# Altium schematic symbol library EEPROM.SchLib: 6 symbols
Pins are listed as number, name and electrical type; pins without a type are passive.

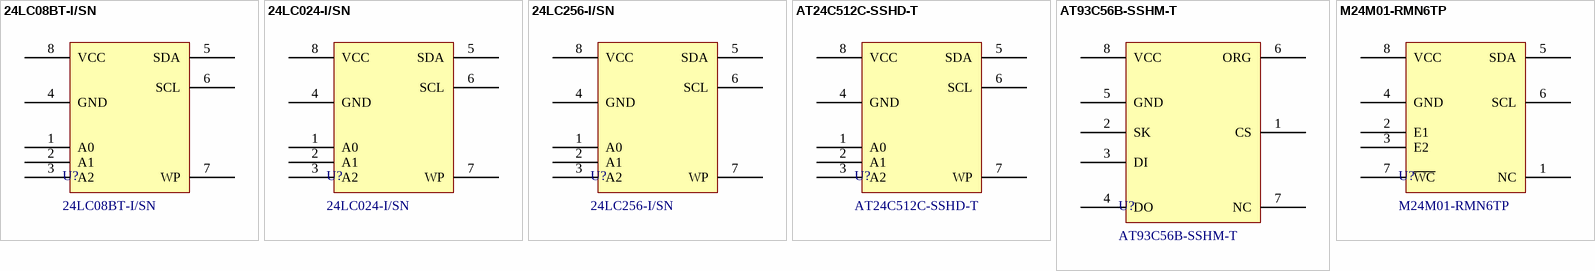
[diagram p0: symbols 24LC08BT-I/SN to M24M01-RMN6TP]

## 24LC08BT-I/SN
designator U?
8 Kbit Electrically Erasable PROM; Manufacturer: Microchip; Interface Type: 2-Wire, I2C; Maximum Clock Frequency: 400 kHz; Memory Size: 8 kbit; Supply Voltage - Max: 5.5 V; Supply Voltage - Min: 2.5 V; Supplier 1 URL: https://www.mouser.vn/ProductDetail/Microchip-Technology/24LC08BT-I-SN?qs=XNV0BZVlaZHdLDEb4lQBIw%3D%3D; Supplier 2 URL: https://www.digikey.com/en/products/detail/microchip-technology/24lc08bt-i-sn/318673; Supplier 3 URL: https://www.thegioiic.com/24lc08b-i-sn-ic-eeprom-8kbit-8-soic; Value: 24LC08BT-I/SN; Manufacturer Part Number: 24LC08BT-I/SN; Supplier 1: Mouser; Supplier 1 Part Number: 579-24LC08BT-I/SN; Supplier 2: Digi-Key; Supplier 2 Part Number: 24LC08BT-I/SNTR-ND; Supplier 3: thegioiic; Supplier 3 Part Number: N/A; Mount: SMD/SMT; Operating Temperature Max: + 85 C; Operating Temperature Min: - 40 C; Package / Case: SOIC-8; Packaging: Tape and Reel; ComponentLink1Description: Datasheet; ComponentLink1URL: https://www.mouser.vn/datasheet/2/268/24AA08_24LC08B_24FC08_8K_I2C_Serial_EEPROM_2000171-2577012.pdf; LCSC Part #: N/A
footprint 24LCxxx-I/SN (SOIC, 8-Leads, Body 4.90x3.90mm, Pitch 1.27mm, IPC Medium Density)
pins: 1 A0, 2 A1, 3 A2, 4 GND, 5 SDA, 6 SCL, 7 WP, 8 VCC

## 24LC024-I/SN
designator U?
2 Kbit Electrically Erasable PROM; Manufacturer: Microchip; Interface Type: 2-Wire, I2C; Maximum Clock Frequency: 400 kHz; Memory Size: 2 kbit; Supply Voltage - Max: 5.5 V; Supply Voltage - Min: 2.5 V; Supplier 1 URL: https://www.mouser.vn/ProductDetail/Microchip-Technology/24LC024-I-SN?qs=qEm8%2FJMJY4oS3QxbKWHseA%3D%3D; Supplier 2 URL: https://www.digikey.com/en/products/detail/microchip-technology/24lc024-i-sn/318656; Supplier 3 URL: https://www.thegioiic.com/24lc024-i-sn-ic-eeprom-2kbit-8-soic; Value: 24LC024-I/SN; Manufacturer Part Number: 24LC024-I/SN; Supplier 1: Mouser; Supplier 1 Part Number: 579-24LC024-I/SN; Supplier 2: Digi-Key; Supplier 2 Part Number: 24LC024-I/SN-ND; Supplier 3: thegioiic; Supplier 3 Part Number: N/A; Mount: SMD/SMT; Operating Temperature Max: + 85 C; Operating Temperature Min: - 40 C; Package / Case: SOIC-8; Packaging: Tape and Reel; ComponentLink1Description: Datasheet; ComponentLink1URL: https://www.mouser.vn/datasheet/2/268/24AA024_24LC024_24AA025_24LC025_2_Kbit_I2C_Serial_-3005761.pdf; LCSC Part #: N/A
footprint 24LCxxx-I/SN (SOIC, 8-Leads, Body 4.90x3.90mm, Pitch 1.27mm, IPC Medium Density)
pins: 1 A0, 2 A1, 3 A2, 4 GND, 5 SDA, 6 SCL, 7 WP, 8 VCC

## 24LC256-I/SN
designator U?
256 Kbit Electrically Erasable PROM; Manufacturer: Microchip; Interface Type: 2-Wire, I2C; Maximum Clock Frequency: 400 kHz; Supply Voltage - Max: 5.5 V; Supply Voltage - Min: 2.5 V; Memory Size: 256 kbit; Supplier 1 URL: https://www.mouser.vn/ProductDetail/Microchip-Technology/24LC256-I-SN?qs=XNV0BZVlaZFRtjzs8l%252BLRw%3D%3D; Supplier 2 URL: https://www.digikey.com/en/products/detail/microchip-technology/24lc256-i-sn/440169; Supplier 3 URL: https://www.thegioiic.com/24lc256-i-sn-ic-eeprom-256kbit-8-soic; Value: 24LC256-I/SN; Manufacturer Part Number: 24LC256-I/SN; Supplier 1: Mouser; Supplier 1 Part Number: 579-24LC256-I/SN; Supplier 2: Digi-Key; Supplier 2 Part Number: 24LC256-I/SN-ND; Supplier 3: thegioiic; Supplier 3 Part Number: N/A; Mount: SMD/SMT; Operating Temperature Max: + 85 C; Operating Temperature Min: - 40 C; Package / Case: SOIC-8; Packaging: Tape and Reel; ComponentLink1Description: Datasheet; ComponentLink1URL: https://www.mouser.vn/datasheet/2/268/24AA256_24LC256_24FC256_256K_I2C_Serial_EEPROM_DS2-3005041.pdf; LCSC Part #: N/A
footprint 24LCxxx-I/SN (SOIC, 8-Leads, Body 4.90x3.90mm, Pitch 1.27mm, IPC Medium Density)
pins: 1 A0, 2 A1, 3 A2, 4 GND, 5 SDA, 6 SCL, 7 WP, 8 VCC

## AT24C512C-SSHD-T
designator U?
EEPROM SERIAL EEPROM 512K (64K X 8) 2WIRE 2.5V; Manufacturer: Microchip; Interface Type: 2-Wire, I2C; Maximum Clock Frequency: 1 MHz; Memory Size: 512 kbit; Supply Voltage - Max: 5.5 V; Supplier 1 URL: https://www.mouser.vn/ProductDetail/Microchip-Technology/AT24C512C-SSHD-T?qs=Oaf4mloV4cM7Q6xetGfOtg%3D%3D; Supplier 2 URL: https://www.digikey.com/en/products/detail/microchip-technology/at24c512c-sshd-t/3046245; Supplier 3 URL: https://www.thegioiic.com/at24c512c-sshd-t-ic-eeprom-512kbit-8-soic; Value: AT24C512C-SSHD-T; Manufacturer Part Number: AT24C512C-SSHD-T; Supplier 1: Mouser; Supplier 1 Part Number: 556-AT24C512C-SSHD-T; Supplier 2: Digi-Key; Supplier 2 Part Number: AT24C512C-SSHD-TTR-ND; Supplier 3: thegioiic; Supplier 3 Part Number: AT24C512C-SSHD-T; Mount: SMD/SMT; Operating Temperature Max: + 85 C; Operating Temperature Min: - 40 C; Package / Case: SOIC-8; Packaging: Tape and Reel; Supply Voltage - Min: 2.5 V; ComponentLink1Description: Datasheet; ComponentLink1URL: https://www.mouser.vn/datasheet/2/268/AT24C512C_I_c2_b2C_Compatible__Two_Wire__Serial_EE-2306430.pdf; LCSC Part #: C12371
footprint M24M01-RMN6TP (SOIC, 8-Leads, Body 4.90x3.90mm, Pitch 1.27mm, IPC Medium Density)
pins: 1 A0, 2 A1, 3 A2, 4 GND, 5 SDA, 6 SCL, 7 WP, 8 VCC

## AT93C56B-SSHM-T
designator U?
EEPROM 2K (256x8/128x16) 3-WIRE, NiPdAu, 1.7V; Manufacturer: Microchip; Interface Type: 3-Wire, Microwire; Maximum Clock Frequency: 2 MHz; Memory Size: 2 kbit; Supply Voltage - Max: 5.5 V; Supplier 1 URL: https://www.mouser.com/ProductDetail/Microchip-Technology/AT93C56B-SSHM-T?qs=SxVMCiT8IVF4cB2r9UHj%252Bg%3D%3D; Supplier 2 URL: N/A; Supplier 3 URL: https://www.thegioiic.com/at93c56-10si-ic-eeprom-2kbit-8-soic; Value: AT93C56B-SSHM-T; Manufacturer Part Number: AT93C56B-SSHM-T; Supplier 1: Mouser; Supplier 1 Part Number: 556-AT93C56B-SSHM-T; Supplier 2: Digi-Key; Supplier 2 Part Number: N/A; Supplier 3: thegioiic; Supplier 3 Part Number: AT93C56-10SI; Mount: SMD/SMT; Operating Temperature Max: + 85 C; Operating Temperature Min: - 40 C; Package / Case: SOIC-8 Narrow; Packaging: Tape and Reel; Supply Voltage - Min: 1.7 V; ComponentLink1Description: Datasheet; ComponentLink1URL: https://www.mouser.com/datasheet/2/268/Atmel_8735_SEEPROM_AT93C56B_66B_Datasheet-1368838.pdf; LCSC Part #: C111441
footprint AT93C56B (SOIC, 8-Leads, Body 4.93x3.90mm, Pitch 1.27mm, IPC Medium Density)
pins: 1 CS, 2 SK, 3 DI, 4 DO, 5 GND, 6 ORG, 7 NC, 8 VCC

## M24M01-RMN6TP
designator U?
EEPROM 1 Mbit Serial; Manufacturer: STMicroelectronics; Interface Type: 2-Wire, I2C; Maximum Clock Frequency: 1 MHz; Memory Size: 1 Mbit; Supply Voltage - Max: 5.5 V; Supply Voltage - Min: 1.8 V; Supplier 1 URL: https://www.mouser.vn/ProductDetail/STMicroelectronics/M24M01-RMN6TP?qs=Djavi1aLnwqgPFAYAO8%2FWw%3D%3D; Supplier 2 URL: https://www.digikey.com/en/products/detail/stmicroelectronics/M24M01-RMN6TP/1827919?s=N4IgTCBcDaILJgCxwAwEYC0AlOA5AbACoAKIAugL5A; Supplier 3 URL: N/A; Value: M24M01-RMN6TP; Manufacturer Part Number: M24M01-RMN6TP; Supplier 1: Mouser; Supplier 1 Part Number: 511-M24M01-RMN6TP; Supplier 2: Digi-Key; Supplier 2 Part Number: 497-6351-2-ND; Supplier 3: thegioiic; Supplier 3 Part Number: N/A; Mount: SMD/SMT; Operating Temperature Max: + 85 C; Operating Temperature Min: - 40 C; Package / Case: SOIC-8; Packaging: Tape and Reel; ComponentLink1Description: Datasheet; ComponentLink1URL: https://www.mouser.vn/datasheet/2/389/m24m01_r-1849830.pdf; LCSC Part #: C79990
footprint M24M01-RMN6TP (SOIC, 8-Leads, Body 4.90x3.90mm, Pitch 1.27mm, IPC Medium Density)
pins: 1 NC, 2 E1, 3 E2, 4 GND, 5 SDA, 6 SCL, 7 ~{WC}, 8 VCC